# EAGLE library part ETA9640 (library IC & Transistor)
2 in 1 Li-ion Synchronous Booster and Charger Short-circuit Protection Boost Output to Input Reversed Current Protection 5W Output Power for the Boost Up to 1A Charging Up to 96% Efficiency during Boosting 100uA of quiescent current during no load Programmable Charging Current Battery level indication with a single LED - blinks from 1x (low) to 4x (full) - constantly on when fully-charged - constantly off during idle & low battery Created by: SC Lim
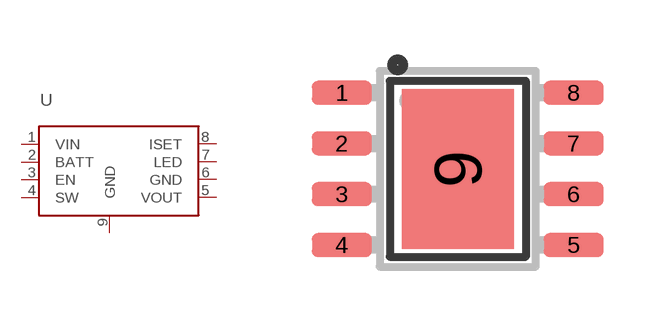
[diagram p75: symbol with the pads of ESOP-8; footprint ESOP-8]

Designator prefix U

## ETA9640_(ESOP-8) (CYTRON-PC: S-IC-ETA9640-ESOP-8; DESC: S Li-ion Booster & Charger ETA9640; MF: ETA Solutions; MPN: ETA9640)  [ESOP-8]
1  VIN  pwr
2  BATT  pwr
3  EN  in
4  SW  pwr
5  VOUT  pwr
6  GND  pwr
7  LED  out
8  ISET
9  GND  pwr

## Footprint ESOP-8 (pad centres in mm)
Adapted from SOIC-08N package. Added thermal pad for IC's heat slug (GND). Created by: SC Lim
smd 1.5 x 0.6: 1 -2.9,1.905; 2 -2.9,0.635; 3 -2.9,-0.635; 4 -2.9,-1.905; 5 2.9,-1.905; 6 2.9,-0.635; 7 2.9,0.635; 8 2.9,1.905
smd 2.8 x 4: 9 0,0